# EAGLE library part MAX7042 (library maxim)
308MHz/315MHz/418MHz/433.92MHz Low-Power, FSK Superheterodyne Receiver Source: http://datasheets.maxim-ic.com/en/ds/MAX7042.pdf
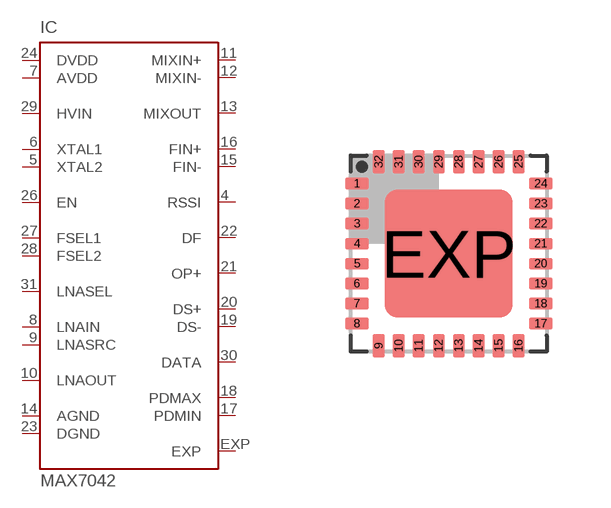
[diagram p398: symbol with the pads of QFN32; footprint QFN32]

Designator prefix IC

## MAX7042ATJ (MF: MAXIM; MPN: MAX7042ATJ+; OC_FARNELL: unknown; OC_NEWARK: 43K3864)  [QFN32]
4  RSSI  out
5  XTAL2  in
6  XTAL1  in
7  AVDD  pwr
8  LNAIN  in
9  LNASRC  in
10  LNAOUT  in
11  MIXIN+  in
12  MIXIN-  in
13  MIXOUT  out
14  AGND  pwr
15  FIN-  in
16  FIN+  in
17  PDMIN  out
18  PDMAX  out
19  DS-  in
20  DS+  in
21  OP+  in
22  DF  in
23  DGND  pwr
24  DVDD  pwr
26  EN  in
27  FSEL1  in
28  FSEL2  in
29  HVIN  in
30  DATA  out
31  LNASEL  in
EXP  EXP  pas

## Footprint QFN32 (pad centres in mm)
QFN 32 5 x 5 mm Source: http://datasheets.maxim-ic.com/en/ds/MAX7042.pdf
smd 0.6 x 0.3: 1 -2.3,1.75; 2 -2.3,1.25; 3 -2.3,0.75; 4 -2.3,0.25; 5 -2.3,-0.25; 6 -2.3,-0.75; 7 -2.3,-1.25; 8 -2.3,-1.75; 17 2.3,-1.75; 18 2.3,-1.25; 19 2.3,-0.75; 20 2.3,-0.25; 21 2.3,0.25; 22 2.3,0.75; 23 2.3,1.25; 24 2.3,1.75
smd 0.3 x 0.6: 9 -1.75,-2.3; 10 -1.25,-2.3; 11 -0.75,-2.3; 12 -0.25,-2.3; 13 0.25,-2.3; 14 0.75,-2.3; 15 1.25,-2.3; 16 1.75,-2.3; 25 1.75,2.3; 26 1.25,2.3; 27 0.75,2.3; 28 0.25,2.3; 29 -0.25,2.3; 30 -0.75,2.3; 31 -1.25,2.3; 32 -1.75,2.3
smd 3.2 x 3.2: EXP 0,0